# Altium footprint library x-TI_S-NGF0006A.PcbLib: 1 footprints
Each footprint in its own frame and in the unit in brackets; x right, y up, seen from the top. Pads: shape width x height; smd on the part's side, far side on the other; paste and mask are expansions set on the pad; w line width, h text height; cw(c..) or ccw(c..) is an arc to the next point about the centre after c.
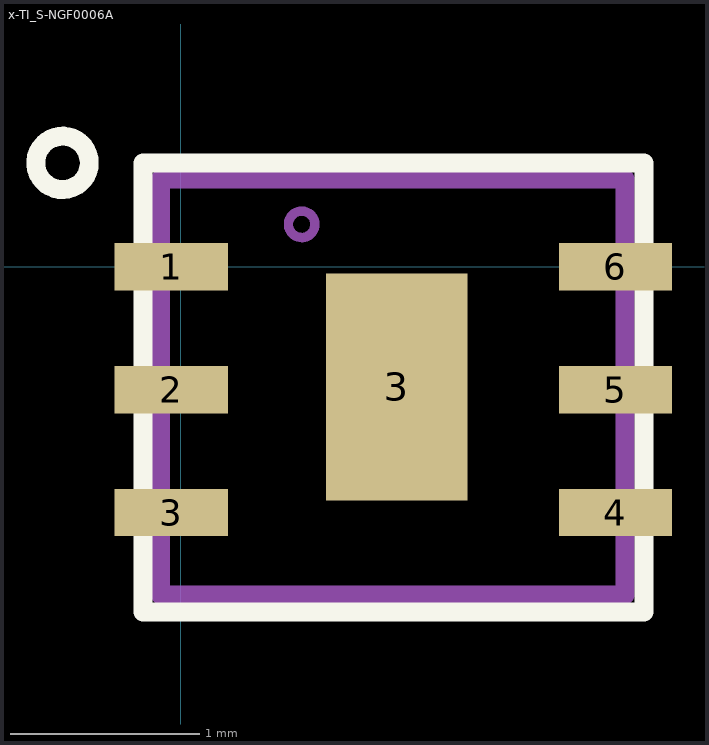
[diagram p0: the footprint, top view; thin cyan lines are the x and y axes]

## x-TI_S-NGF0006A [mm] "6-WSON (2.2x2.5)"
pads (7):
  rect 0.6x0.25 smd: 1(-0.05,0) 2(-0.05,-0.65) 3(-0.05,-1.3) 4(2.3,-1.3) 5(2.3,-0.65) 6(2.3,0)
  rect 0.75x1.2 smd: 3(1.143,-0.635)
Top Overlay:
  circle w0.1: c-0.625,0.55 r0.141
  lines w0.1: -0.2,-1.825 2.45,-1.825 2.45,0.55 -0.2,0.55 -0.2,-1.825
Mechanical 1:
  circle w0.05: c0.64,0.225 r0.07
  lines w0.1: -0.107,-1.735 2.35,-1.735 2.35,0.465 -0.107,0.465 -0.107,-1.735
3D body: height 0.8, standoff 0, extent -0.107,-1.735 2.393,0.465